# Altium footprint library UserPcbLib.PcbLib: 107 footprints (part 6 of 7)
Each footprint in its own frame and in the unit in brackets; x right, y up, seen from the top. Pads: shape width x height; smd on the part's side, far side on the other; paste and mask are expansions set on the pad; w line width, h text height; cw(c..) or ccw(c..) is an arc to the next point about the centre after c.
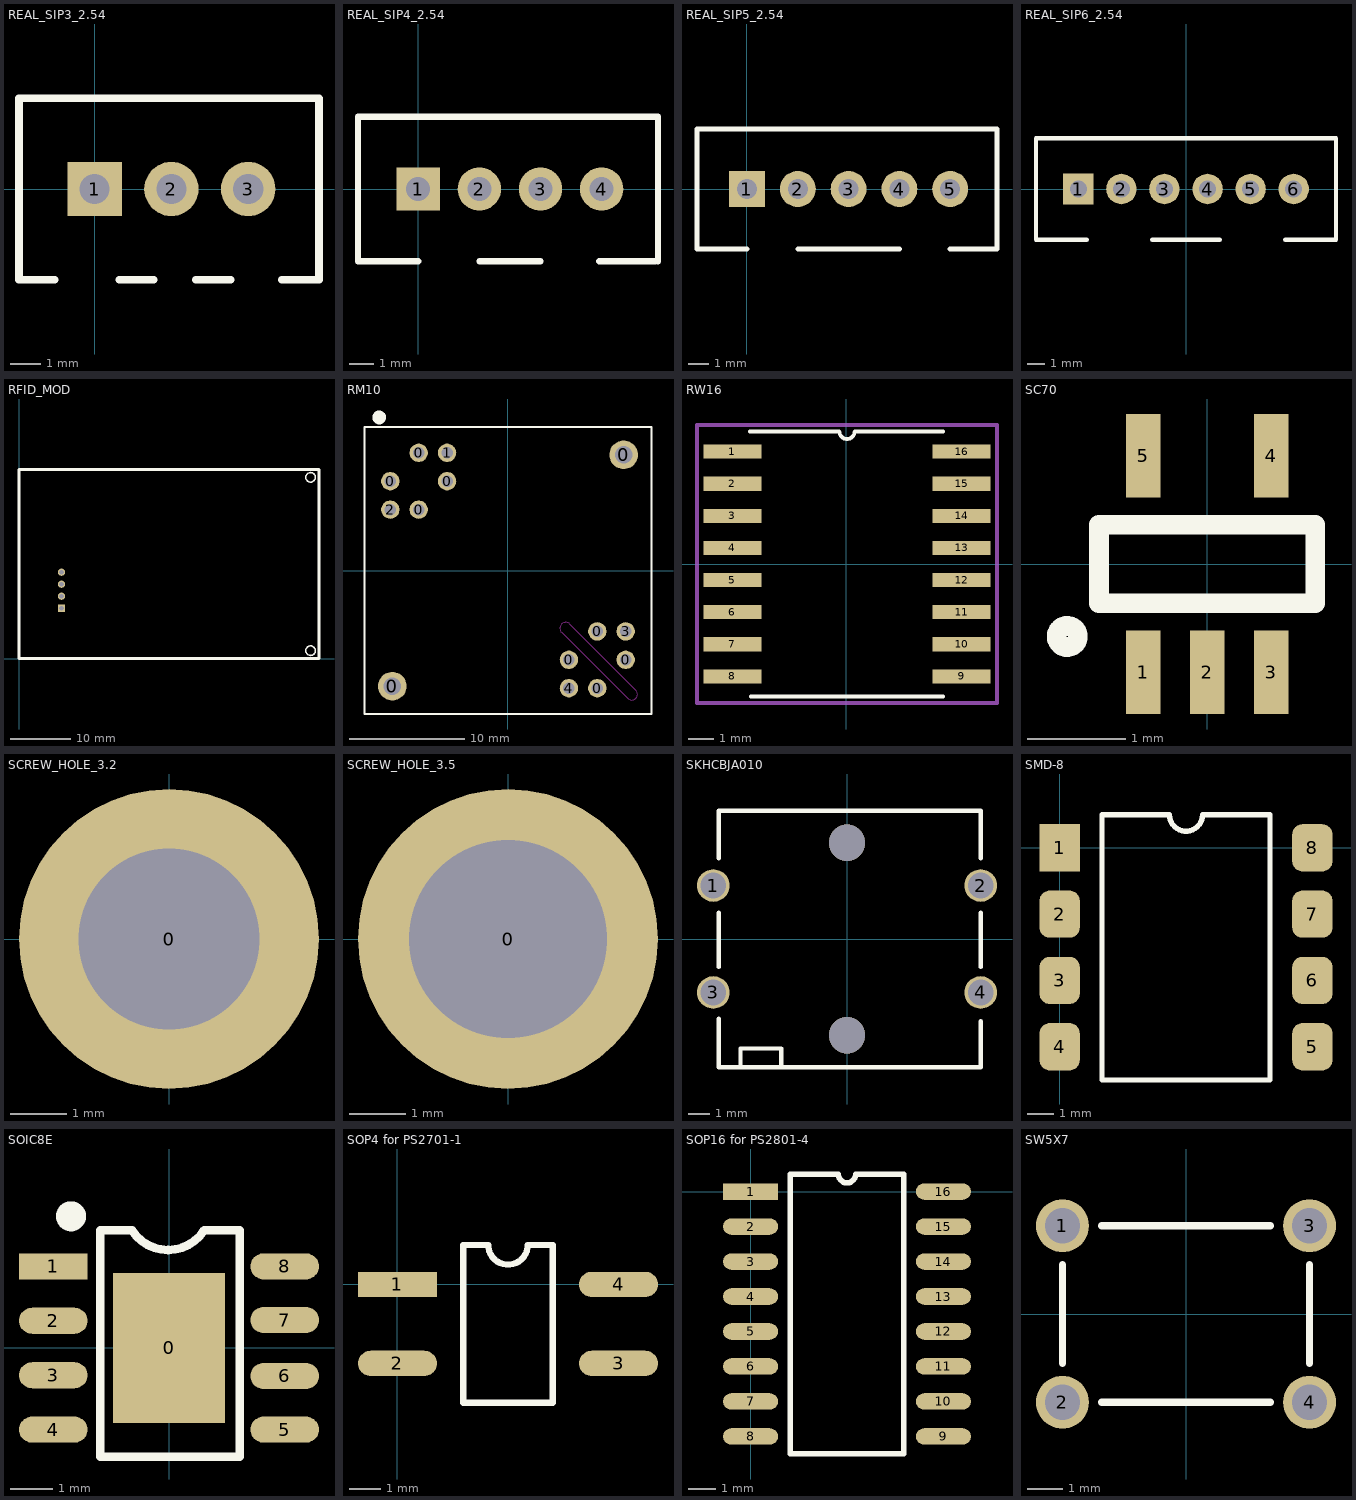
[diagram p5: the footprints below, top view; thin cyan lines are the x and y axes]

## REAL_SIP3_2.54 [mm]
pads (3):
  rect 1.8x1.8 hole 1: 1(0,0)
  round 1.8 hole 1: 2(2.54,0) 3(5.08,0)
Top Overlay:
  lines w0.254: -2.5,-3 -2.5,2.97 ; -2.5,3 7.414,3 7.42,2.994 7.42,-3 ; -2.476,-3 -1.321,-3 ; 0.813,-3 1.956,-3 ; 3.353,-3 4.496,-3 ; 6.198,-3 7.417,-3

## REAL_SIP4_2.54 [mm]
pads (4):
  rect 1.8x1.8 hole 1: 1(0,0)
  round 1.8 hole 1: 2(2.54,0) 3(5.08,0) 4(7.62,0)
Top Overlay:
  lines w0.254: -2.5,-3 -2.5,2.97 ; -2.5,3 9.96,3 9.96,-3 ; -2.476,-3 0,-3 ; 2.54,-3 5.08,-3 ; 7.518,-3 9.858,-3

## REAL_SIP5_2.54 [mm]
pads (5):
  rect 1.8x1.8 hole 1: 1(0,0)
  round 1.8 hole 1: 2(2.54,0) 3(5.08,0) 4(7.62,0) 5(10.16,0)
Top Overlay:
  lines w0.254: -2.5,-3 -2.5,2.97 ; -2.5,3 12.5,3 ; -2.476,-3 0,-3 ; 2.54,-3 7.62,-3 ; 10.16,-3 12.5,-3 12.5,2.97

## REAL_SIP6_2.54 [mm]
pads (6):
  rect 1.8x1.8 hole 1: 1(-6.35,0)
  round 1.8 hole 1: 2(-3.81,0) 3(-1.27,0) 4(1.27,0) 5(3.81,0) 6(6.35,0)
Top Overlay:
  lines w0.254: -5.85,-3 -8.85,-3 -8.85,3 8.85,3 8.85,-3 5.85,-3 ; -2,-3 2,-3
3D body: height 7, standoff 0, extent -8.763,-2.921 8.837,2.879

## RFID_MOD [mm] "M1 RFID module"
pads (4):
  rect 1.2x1.2 hole 0.8: 1(7.09,8.38)
  round 1.2 hole 0.8: 2(7.09,10.38) 3(7.09,12.38) 4(7.09,14.38)
Top Overlay:
  circle w0.254: c48.6,1.3 r0.8
  circle w0.254: c48.6,30.2 r0.8
  lines w0.5: 0,0 50,0 50,31.5 0,31.5 0,0
3D body: height 4, standoff 0, extent -0.102,-0.229 50.216,31.623

## RM10 [mm]
pads (14):
  round 1.6 hole 1: 0(-10.253,7.778) 0(-7.778,5.303) 0(-7.778,10.253) 0(-5.303,7.778) 0(5.303,-7.778) 0(7.778,-10.253) 0(7.778,-5.303) 0(10.253,-7.778) 1(-5.303,10.253) 2(-10.253,5.303) 3(10.253,-5.303) 4(5.303,-10.253)
  round 2.5 hole 1.5: 0(-10.076,-10.076) 0(10.076,10.076)
Top Overlay:
  circle w0.6: c-11.222,13.335 r0.3
  lines w0.2: -12.502,-12.502 -12.502,12.502 12.502,12.502 12.502,-12.502 -12.502,-12.502
Keep-Out Layer:
  lines w0.1: 4.67,-5.388 cw(c5.029,-5.029) 5.388,-4.67 11.136,-10.417 cw(c10.776,-10.776) 10.417,-11.136 4.67,-5.388

## RW16 [mil] "ADM2483 footprint"
pads (16):
  rect 90.5x22 smd: 1(-177.25,175) 2(-177.25,125) 3(-177.25,75) 4(-177.25,25) 5(-177.25,-25) 6(-177.25,-75) 7(-177.25,-125) 8(-177.25,-175) 9(179.25,-175) 10(179.25,-125) 11(179.25,-75) 12(179.25,-25) 13(179.25,25) 14(179.25,75) 15(179.25,125) 16(179.25,175)
Top Overlay:
  lines w6: -150,206.5 -12.5,206.5 ; -148.5,-206.5 150.5,-206.5 ; -11,206.5 ccw(c1,206.5) 13,206.5 150.5,206.5
Mechanical 15:
  lines w6: -232.5,-216.5 -232.5,216.5 234.5,216.5 234.5,-216.5 -232.5,-216.5

## SC70 [mm] "TI DCK (R-PDSO-G5)"
pads (5):
  rect 0.35x0.85 smd: 1(-0.65,-1.1) 2(0,-1.1) 3(0.65,-1.1) 4(0.65,1.1) 5(-0.65,1.1)
Top Overlay:
  circle w0.2: c-1.422,-0.737 r0.108
  lines w0.2: -1.1,-0.4 -1.1,0.4 1.1,0.4 1.1,-0.4 -1.1,-0.4

## SCREW_HOLE_3.2 [mm]
pads (1):
  round 5.3 hole 3.2: 0(0,0)

## SCREW_HOLE_3.5 [mm]
pads (1):
  round 5.3 hole 3.5: 0(0,0)

## SKHCBJA010 [mm] "Alps SKHC series switch 12x12"
pads (4):
  round 1.524 hole 1.2: 1(-6.25,2.5) 2(6.25,2.5) 3(-6.25,-2.5) 4(6.25,-2.5)
via 0,-4.5 diameter 1.7 hole 1.7
via 0,4.5 diameter 1.7 hole 1.7
Top Overlay:
  lines w0.2: -6,-3.723 -6,-6 6.196,-6 ; -6,-1.31 -6,1.23 ; -6,3.77 -6,6 6.25,6 6.25,3.77 ; -4.98,-6 -4.98,-5.12 -3.075,-5.12 -3.075,-6 ; 6.25,-6 6.25,-3.85 ; 6.25,-1.31 6.25,1.23

## SMD-8 [mm]
pads (8):
  rect 1.52x1.78 smd: 1(0,0)
  rrect50% 1.52x1.78 smd: 2(0,-2.5) 3(0,-5) 4(0,-7.5) 5(9.53,-7.5) 6(9.53,-5) 7(9.53,-2.5) 8(9.53,0)
Top Overlay:
  lines w0.2: 1.595,-8.75 7.935,-8.75 7.935,1.25 5.39,1.25 cw(c4.765,1.25) 4.14,1.25 1.595,1.25 1.595,-8.75

## SOIC8E [mm]
pads (9):
  rect 2.62x3.51 smd: 0(0,0)
  rect 1.6x0.61 smd: 1(-2.7,1.905)
  oval 1.6x0.61 smd: 2(-2.7,0.635) 3(-2.7,-0.635) 4(-2.7,-1.905) 5(2.7,-1.905) 6(2.7,-0.653) 7(2.7,0.653) 8(2.7,1.905)
Top Overlay:
  circle w0.5: c-2.286,3.073 r0.1
  lines w0.2: 1.626,2.743 0.819,2.743 cw(c-0.022,3.289) -0.864,2.743 -1.6,2.743 -1.6,-2.54 1.651,-2.54 1.651,2.743

## SOP4 for PS2701-1 [mm]
pads (4):
  rect 2.5x0.8 smd: 1(0,0)
  oval 2.5x0.8 smd: 2(0,-2.5) 3(7,-2.5) 4(7,0)
Top Overlay:
  lines w0.2: 2.085,-3.75 4.915,-3.75 4.915,1.25 4.125,1.25 cw(c3.5,1.25) 2.875,1.25 2.085,1.25 2.085,-3.75
3D body: height 0.3, standoff 0, extent 0,-2.794 2.159,-2.286
3D body: height 0.3, standoff 0, extent 0,-0.254 2.159,0.254
3D body: height 0.3, standoff 0, extent 4.826,-2.794 6.985,-2.286
3D body: height 0.3, standoff 0, extent 4.826,-0.254 6.985,0.254
3D body: height 2.1, standoff 0, extent 2.159,-3.302 4.953,0.635

## SOP16 for PS2801-4 [mm]
pads (16):
  rect 2x0.6 smd: 1(0,0)
  oval 2x0.6 smd: 2(0,-1.27) 3(0,-2.54) 4(0,-3.81) 5(0,-5.08) 6(0,-6.35) 7(0,-7.62) 8(0,-8.89) 9(7,-8.89) 10(7,-7.62) 11(7,-6.35) 12(7,-5.08) 13(7,-3.81) 14(7,-2.54) 15(7,-1.27) 16(7,0)
Top Overlay:
  lines w0.2: 1.435,-9.525 1.435,0.635 3.183,0.635 ccw(c3.5,0.635) 3.818,0.635 5.565,0.635 5.565,-9.525 1.435,-9.525

## SW5X7 [mm]
pads (4):
  round 1.5 hole 1: 1(-3.5,2.5) 2(-3.5,-2.5) 3(3.5,2.5) 4(3.5,-2.5)
Top Overlay:
  lines w0.2: -3.5,-1.4 -3.5,1.4 ; -2.4,-2.5 2.4,-2.5 ; -2.4,2.5 2.4,2.5 ; 3.5,-1.4 3.5,1.4